# EAGLE library part ADG719B (library analog-devices)
ANALOG SWITCH CMOS Low Voltage, 4-ohm DPDT
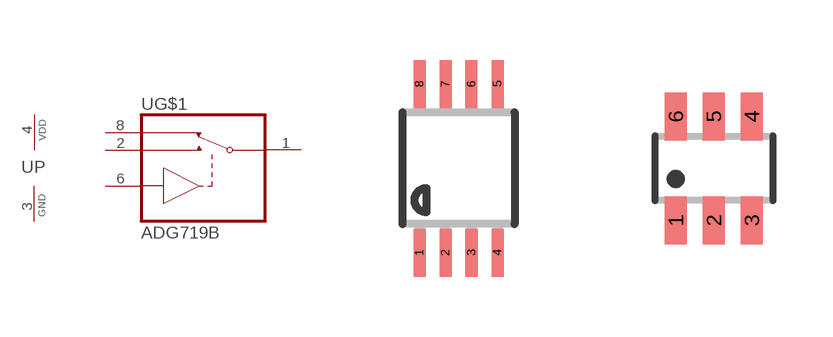
[diagram p41: symbol with the pads of MSOP08; footprints MSOP08, SOT23-6]

Designator prefix U; gates G$1=ASW-SPDT P=PWRN_VDDGND

## ADG719BRM  [MSOP08]
1  G$1:D  pas
2  G$1:S1  pas
3  P:GND  pwr
4  P:VDD  pwr
6  G$1:IN  in
8  G$1:S2  pas

## ADG719BRJ  [SOT23-6]
1  G$1:IN  in
2  P:VDD  pwr
3  P:GND  pwr
4  G$1:S1  pas
5  G$1:D  pas
6  G$1:S2  pas

## Footprint MSOP08 (pad centres in mm)
Mini Small Outline Package
smd 0.3 x 1.2: 1 -0.975,-2.113; 2 -0.325,-2.113; 3 0.325,-2.113; 4 0.975,-2.113; 5 0.975,2.112; 6 0.324,2.112; 7 -0.325,2.112; 8 -0.975,2.112

## Footprint SOT23-6 (pad centres in mm)
SOT-23 - DBV 0.95 mm pitch
smd 0.55 x 1.2: 1 -0.95,-1.3; 2 0,-1.3; 3 0.95,-1.3; 4 0.95,1.3; 5 0,1.3; 6 -0.95,1.3